# EAGLE library part 693021020811 (library WR-CRD)
WR-CRD SIM Card Connectors Characteristics Available in three form factors: Mini, Micro and Nano Available in three entry types: Push-Pull, Hinge and Push-Push Compatible with SIM and MegaSIM standards Applications Mobile Broadband Communication Internet of Things Fleet Management Security and Authentication Machine-to-Machine Communication <https://www.we-online.com/components/media/o732987v209%20693021020811_Multi-parts.jpg> Details see: www.we-online.com/components/products/WR_CRD_CARD_CONNECTOR_SIM <www.we-online.com/catalog/WR_CRD_CARD_CONNECTOR_SIM/?utm_source=eagle_model&utm_medium=description_link&utm_campaign=eisos_eagle> Created by Ella Wu 2023-03-28 2023 (C) Würth Elektronik
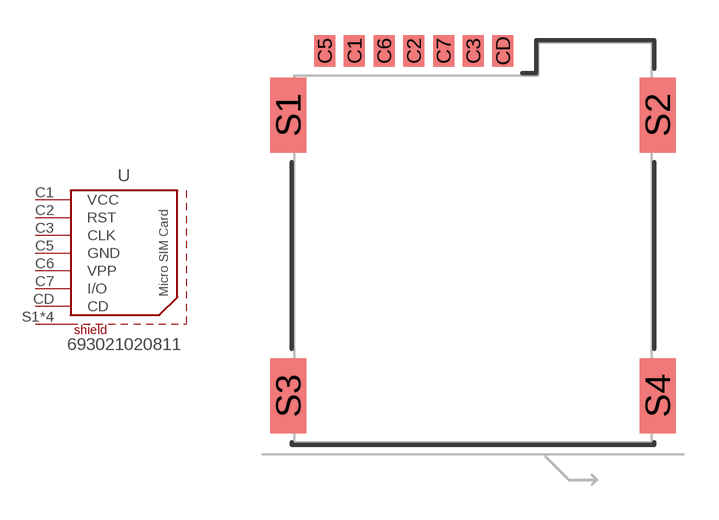
[diagram p15: symbol with the pads of 693021020811; footprint 693021020811]

Designator prefix -

## 693021020811 (DATASHEET-URL: https://www.we-online.com/redexpert/spec/693021020811?ae; DURABILITY: 5000 Mating Cycles; GERDER: Receptacle; MOUNT: SMT; PART-NUMBER: 693021020811; PINS: 9pcs; SIZE: Micro SIM; TYPE: Push & Push; VALUE: 693021020811)  [693021020811]
C1  VCC  pas
C2  RST  pas
C3  CLK  pas
C5  GND  pas
C6  VPP  pas
C7  I/O  pas
CD  CD  pas
S1  SHIELD  pas
S2  SHIELD  pas
S3  SHIELD  pas
S4  SHIELD  pas

## Footprint 693021020811 (pad centres in mm)
WR-CRD Micro SIM Card Connector Push & Push with Card Detection
smd 0.9 x 1.35: C1 -5.07,8.765; C2 -2.53,8.765; C3 0.01,8.765; C5 -6.34,8.765; C6 -3.8,8.765; C7 -1.26,8.765; CD 1.28,8.765
smd 1.55 x 3.2: S1 -7.9,6.01; S2 7.9,6.01; S3 -7.9,-6.01; S4 7.9,-6.01